# Altium footprint library Pads.PcbLib: 3 footprints
Each footprint in its own frame and in the unit in brackets; x right, y up, seen from the top. Pads: shape width x height; smd on the part's side, far side on the other; paste and mask are expansions set on the pad; w line width, h text height; cw(c..) or ccw(c..) is an arc to the next point about the centre after c.
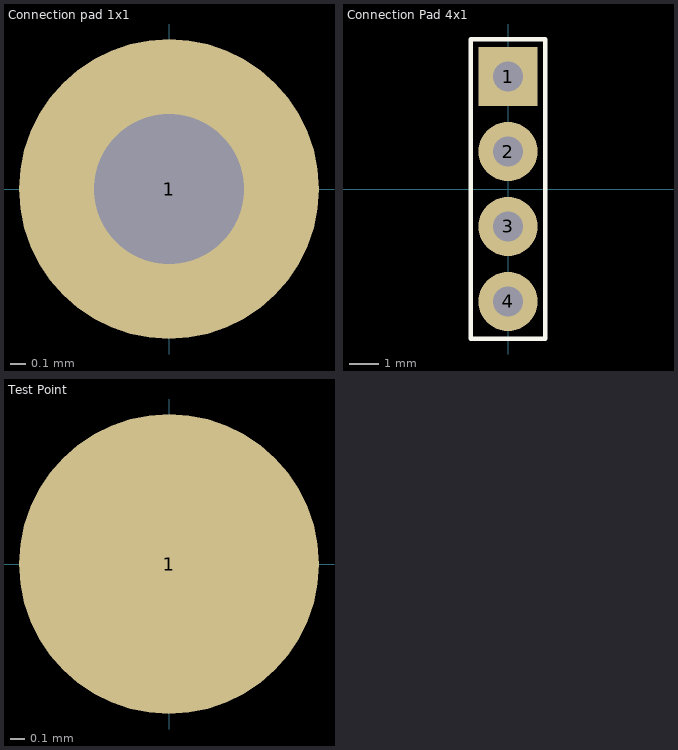
[diagram p0: the footprints below, top view; thin cyan lines are the x and y axes]

## Connection pad 1x1 [mm]
pads (1):
  round 2 hole 1: 1(0,0)

## Connection Pad 4x1 [mm]
pads (4):
  rect 2x2 hole 1: 1(0,3.81)
  round 2 hole 1: 2(0,1.27) 3(0,-1.27) 4(0,-3.81)
Top Overlay:
  lines w0.152: -1.27,-5.08 -1.27,5.08 1.27,5.08 1.27,-5.08 -1.27,-5.08

## Test Point [mil]
pads (1):
  round 80 smd: 1(0,0)